# EAGLE library part N64-CART_SLOT_4 (library cartreader)
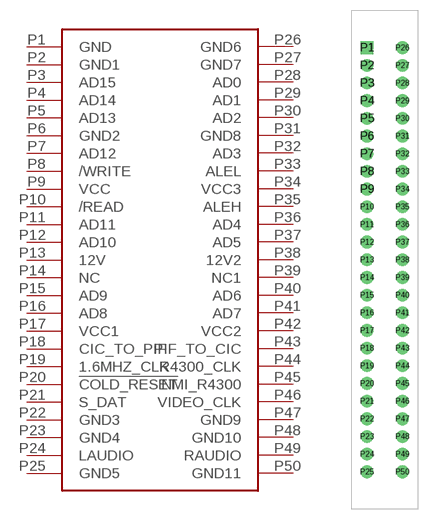
[diagram p10: symbol with the pads of N64-CART_SLOT_4; footprint N64-CART_SLOT_4]

Designator prefix -

## N64-CART_SLOT_4  [N64-CART_SLOT_4]
P1  GND
P2  GND1
P3  AD15
P4  AD14
P5  AD13
P6  GND2
P7  AD12
P8  /WRITE
P9  VCC
P10  /READ
P11  AD11
P12  AD10
P13  12V
P14  NC
P15  AD9
P16  AD8
P17  VCC1
P18  CIC_TO_PIF
P19  1.6MHZ_CLK
P20  !COLD_RESET
P21  S_DAT
P22  GND3
P23  GND4
P24  LAUDIO
P25  GND5
P26  GND6
P27  GND7
P28  AD0
P29  AD1
P30  AD2
P31  GND8
P32  AD3
P33  ALEL
P34  VCC3
P35  ALEH
P36  AD4
P37  AD5
P38  12V2
P39  NC1
P40  AD6
P41  AD7
P42  VCC2
P43  PIF_TO_CIC
P44  R4300_CLK
P45  NMI_R4300
P46  VIDEO_CLK
P47  GND9
P48  GND10
P49  RAUDIO
P50  GND11

## Footprint N64-CART_SLOT_4 (pad centres in mm)
drill 1.2 square: P1 -2.5,30
drill 1.2: P2 -2.5,27.5; P3 -2.5,25; P4 -2.5,22.5; P5 -2.5,20; P6 -2.5,17.5; P7 -2.5,15; P8 -2.5,12.5; P9 -2.5,10; P10 -2.5,7.5; P11 -2.5,5; P12 -2.5,2.5; P13 -2.5,0; P14 -2.5,-2.5; P15 -2.5,-5; P16 -2.5,-7.5; P17 -2.5,-10; P18 -2.5,-12.5; P19 -2.5,-15; P20 -2.5,-17.5; P21 -2.5,-20; P22 -2.5,-22.5; P23 -2.5,-25; P24 -2.5,-27.5; P25 -2.5,-30; P26 2.5,30; P27 2.5,27.5; P28 2.5,25; P29 2.5,22.5; P30 2.5,20; P31 2.5,17.5; P32 2.5,15; P33 2.5,12.5; P34 2.5,10; P35 2.5,7.5; P36 2.5,5; P37 2.5,2.5; P38 2.5,0; P39 2.5,-2.5; P40 2.5,-5; P41 2.5,-7.5; P42 2.5,-10; P43 2.5,-12.5; P44 2.5,-15; P45 2.5,-17.5; P46 2.5,-20; P47 2.5,-22.5; P48 2.5,-25; P49 2.5,-27.5; P50 2.5,-30